# Altium schematic symbol library TPS5420.SchLib: 1 symbol
Pins are listed as number, name and electrical type; pins without a type are passive.

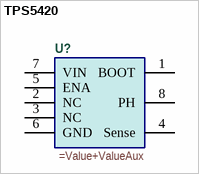
[diagram p0: symbol TPS5420]

## TPS5420
designator U?
=Description
pins: 1 BOOT, 2 NC, 3 NC, 4 Sense, 5 ENA, 6 GND, 7 VIN, 8 PH